# Altium footprint library !Connectors Rectangular Other.PcbLib: 19 footprints (part 2 of 2)
Each footprint in its own frame and in the unit in brackets; x right, y up, seen from the top. Pads: shape width x height; smd on the part's side, far side on the other; paste and mask are expansions set on the pad; w line width, h text height; cw(c..) or ccw(c..) is an arc to the next point about the centre after c.
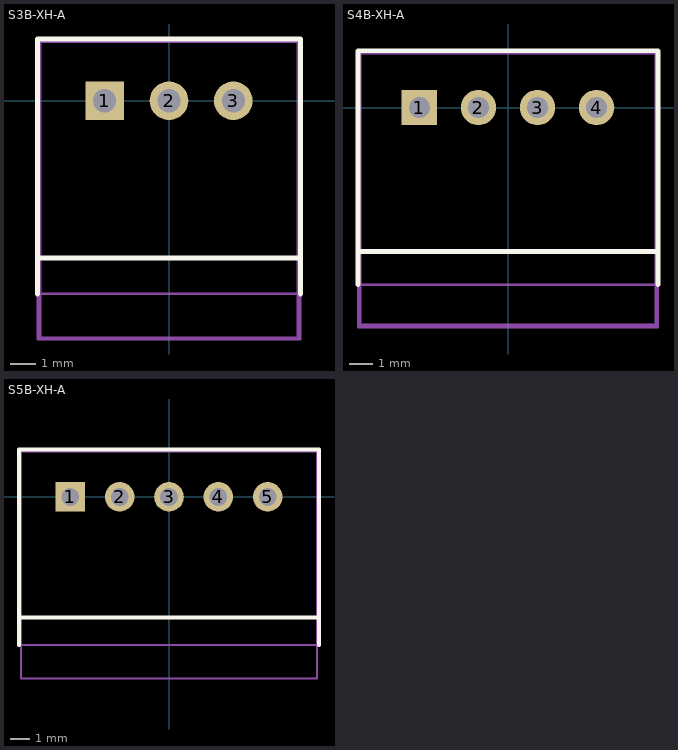
[diagram p1: the footprints below, top view; thin cyan lines are the x and y axes]

## S3B-XH-A [mm] "XH connector; Place for header 3pins 2.54 pitch"
height 7
pads (3):
  rect 1.5x1.5 hole 0.9: 1(-2.5,0)
  round 1.5 hole 0.9: 2(0,0) 3(2.5,0)
Top Overlay:
  lines w0.2: -5.1,-7.5 -5.1,2.4 5.1,2.4 5.1,-7.5 ; -5.1,-6.1 5.1,-6.1
Top Package:
  circle w0.1: c-2.5,0 r0.568
  circle w0.1: c0,0 r0.568
  circle w0.1: c2.5,0 r0.568
  lines w0.1: -5,-7.5 5,-7.5 ; -5,-9.2 5,-9.2 5,2.3 -5,2.3 -5,-9.2
Top Border:
  lines w0.1: -0.5,0 0.5,0 ; 0,-0.5 0,0.5 ; -5.1,-9.25 -5.1,2.4 5.1,2.4 5.1,-9.25 -5.1,-9.25
3D body "S3B-XH-A.STEP": height 6.25, standoff -3.3, extent -4.95,-9.25 4.95,2.25

## S4B-XH-A [mm] "XH connector; Place for header 4pins 2.54 pitch"
height 7
pads (4):
  rect 1.5x1.5 hole 0.9: 1(-3.75,0)
  round 1.5 hole 0.9: 2(-1.25,0) 3(1.25,0) 4(3.75,0)
Top Overlay:
  lines w0.2: -6.35,-7.5 -6.35,2.4 6.35,2.4 6.35,-7.5 ; -6.35,-6.1 6.35,-6.1
Top Package:
  circle w0.1: c3.75,0 r0.568
  circle w0.1: c1.25,0 r0.568
  circle w0.1: c-1.25,0 r0.568
  circle w0.1: c-3.75,0 r0.568
  lines w0.1: -6.25,-7.5 6.25,-7.5 ; -6.25,-9.2 -6.25,2.3 6.25,2.3 6.25,-9.2 -6.25,-9.2
Top Border:
  lines w0.1: -1.75,0 -0.75,0 ; -1.25,-0.5 -1.25,0.5 ; -6.35,-9.3 6.35,-9.3 6.35,2.4 -6.35,2.4 -6.35,-9.3
3D body "S4B-XH-A.step": height 6.2, standoff -1.9, extent -6.2,-9.225 6.2,2.275

## S5B-XH-A [mm] "XH connector; Place for header 5pins 2.54 pitch"
height 7
pads (5):
  rect 1.5x1.5 hole 0.9: 1(-5,0)
  round 1.5 hole 0.9: 2(-2.5,0) 3(0,0) 4(2.5,0) 5(5,0)
Top Overlay:
  lines w0.2: -7.6,-7.5 -7.6,2.4 7.6,2.4 7.6,-7.5 ; -7.6,-6.1 7.6,-6.1
Top Solder:
  lines w0.1: -0.5,0 0.5,0 ; 0,-0.5 0,0.5 ; -7.6,-7.6 7.6,-7.6 7.6,2.4 -7.6,2.4 -7.6,-7.6
Top Package:
  circle w0.1: c-5,0 r0.568
  circle w0.1: c5,0 r0.568
  circle w0.1: c2.5,0 r0.568
  circle w0.1: c0,0 r0.568
  circle w0.1: c-2.5,0 r0.568
  lines w0.1: -7.5,-7.5 7.5,-7.5 ; -7.5,-9.2 -7.5,2.3 7.5,2.3 7.5,-9.2 -7.5,-9.2
3D body "S5B-XH-A.step": height 6.2, standoff -1.9, extent -7.45,-9.15 7.45,2.35